# Altium footprint library 100SP1T1B4M2QE.PcbLib: 1 footprints
Each footprint in its own frame and in the unit in brackets; x right, y up, seen from the top. Pads: shape width x height; smd on the part's side, far side on the other; paste and mask are expansions set on the pad; w line width, h text height; cw(c..) or ccw(c..) is an arc to the next point about the centre after c.
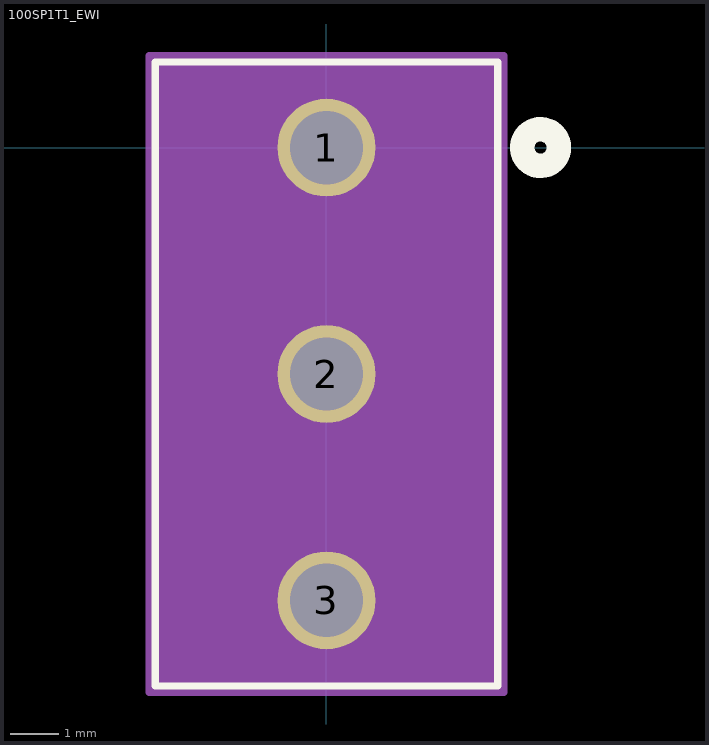
[diagram p0: the footprint, top view; thin cyan lines are the x and y axes]

## 100SP1T1_EWI [mil]
pads (3):
  round 80 hole 60 paste-40 mask+0: 1(0,0) 2(0,-185.04) 3(0,-370.08)
Top Overlay:
  circle w20: c175,0 r15
  lines w6: -140,-440.04 140,-440.04 140,69.96 -140,69.96 -140,-440.04
  text ".Designator" at -137.5,-210.04 h50
Bottom Overlay:
  circle w20: c175,0 r15
Mechanical 13:
  circle w20: c0,0 r15
  lines w1: -135,-435.04 135,-435.04 135,64.96 -135,64.96 -135,-435.04
  text ".Designator" at -137.5,-210.04 h50
Mechanical 15:
  region: 145,74.96 -145,74.96 -145,-445.04 145,-445.04
  lines w6: -145,-445.04 -145,74.96 145,74.96 145,-445.04 -145,-445.04